# Altium footprint library Diodes.PcbLib: 14 footprints
Each footprint in its own frame and in the unit in brackets; x right, y up, seen from the top. Pads: shape width x height; smd on the part's side, far side on the other; paste and mask are expansions set on the pad; w line width, h text height; cw(c..) or ccw(c..) is an arc to the next point about the centre after c.
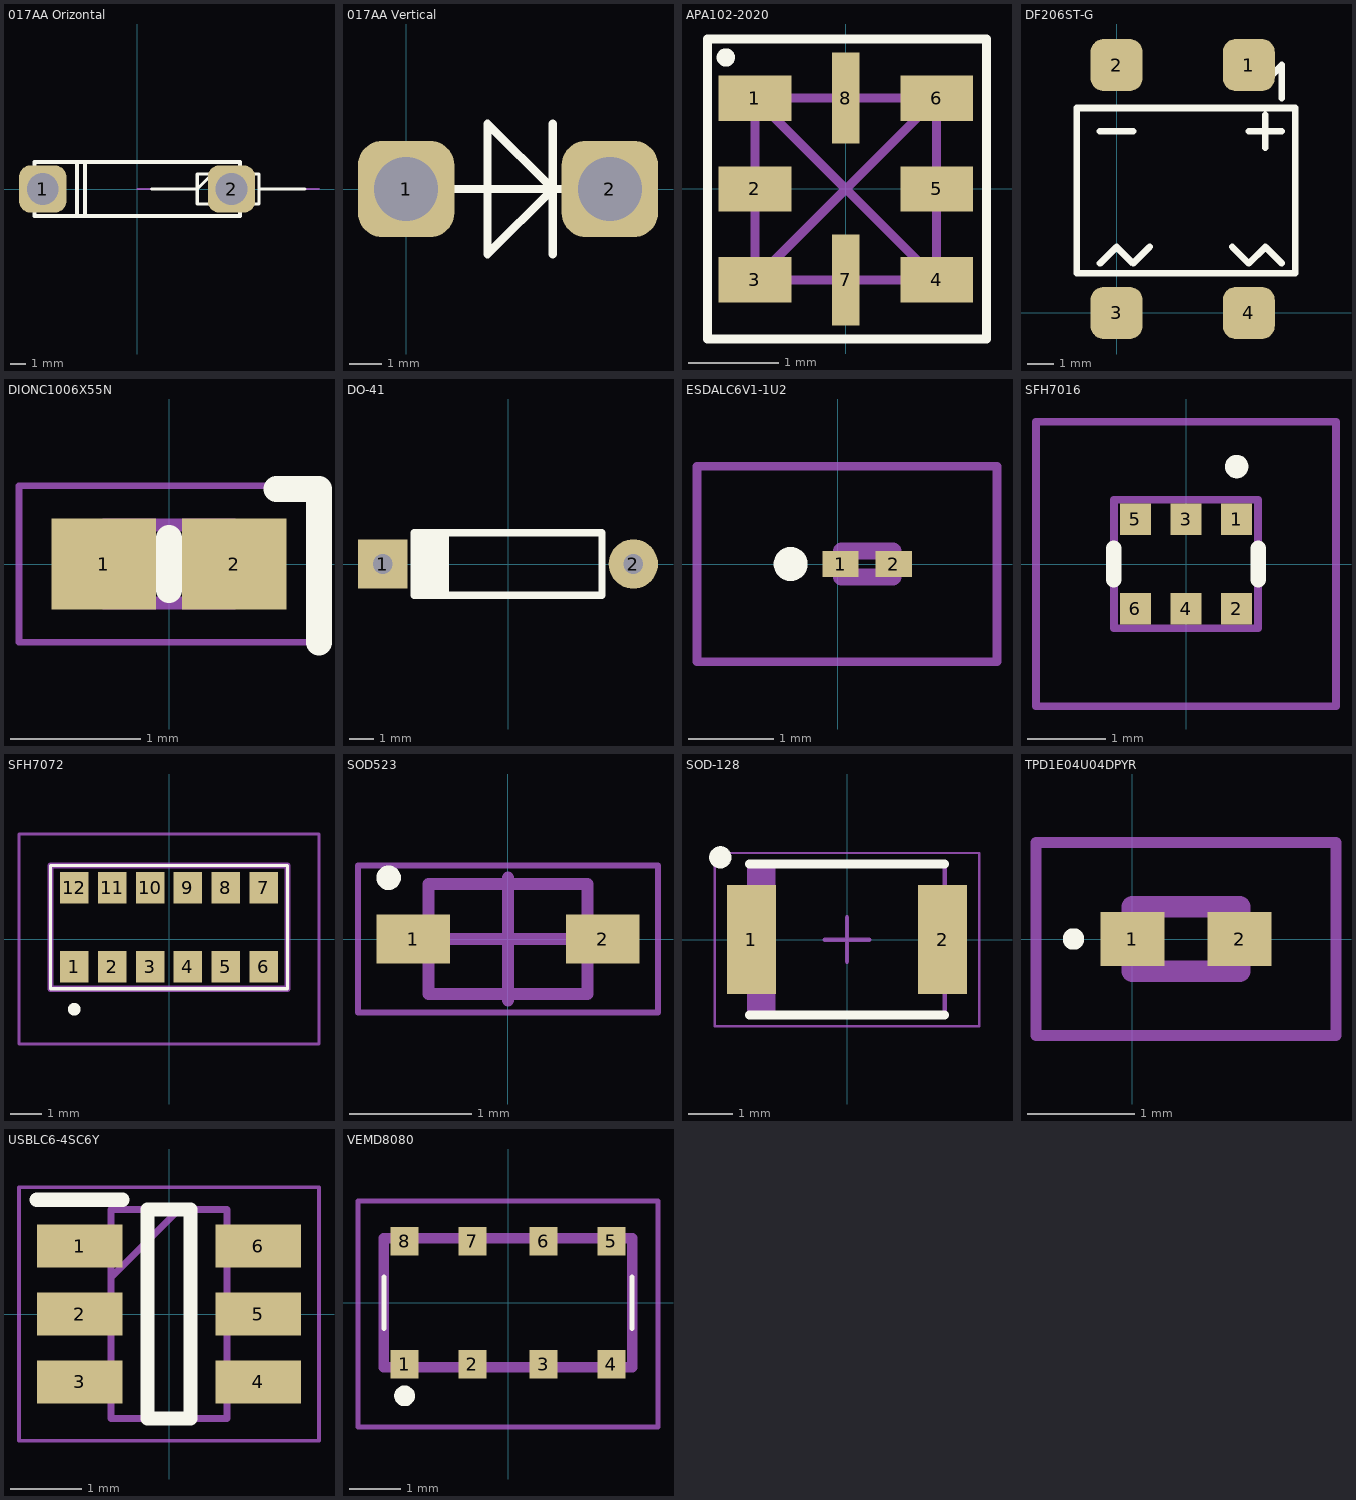
[diagram p0: the footprints below, top view; thin cyan lines are the x and y axes]

## 017AA Orizontal [mm] "Diode Case 017AA pitch 12 mm"
pads (2):
  rrect50% 3x3 hole 2: 1(-5.969,0) 2(5.969,0)
Top Overlay:
  lines w0.2: 0.9,0 3.8,0 4.75,0.95 ; 7.7,0 10.6,0 ; 3.8,-0.95 7.7,-0.95 7.7,0.95 3.8,0.95 3.8,-0.95
  lines w0.254: -3.81,-1.7 -3.81,1.7 ; -3.302,-1.7 -3.302,1.7 ; -6.5,-1.7 6.5,-1.7 6.5,1.7 -6.5,1.7 -6.5,-1.7
Mechanical 13:
  lines w0.1: 0,0 3.8,0 4.75,0.95 ; 3.8,0.95 3.8,-0.95 7.7,-0.95 ; 7.7,0 11.5,0
3D body "ZPD5.6.stp": height 2, standoff -2, extent -0.25,-0.993 11.75,0.993
3D body "User Library-Diode Case 017AA.STEP": height 3.4, standoff -3, extent -6.5,-1.7 6.5,1.7

## 017AA Vertical [mm] "Diode Case 017AA pitch 12 mm"
pads (2):
  rrect50% 3x3 hole 2: 1(0,0) 2(6.35,0)
Top Overlay:
  lines w0.254: 1.016,0 0,0 6.35,0 ; 4.572,-2.032 4.572,0 ; 4.572,2.032 4.572,0 ; 4.572,0 2.54,2.032 2.54,-2.032 4.572,0
3D body "User Library-Diode Case 017AA.STEP": height 11.5, standoff -1.5, extent -1.876,-1.7 4.524,1.7

## APA102-2020 [mm]
pads (8):
  rect 0.8x0.5 smd: 1(-1,1) 2(-1,0) 3(-1,-1) 4(1,-1) 5(1,0) 6(1,1)
  rect 0.3x1 smd: 7(0,-1) 8(0,1)
Top Overlay:
  circle w0.1: c-1.321,1.448 r0.051
  lines w0.1: -1.524,-1.651 -1.524,1.651 1.549,1.651 1.549,-1.651 -1.524,-1.651
Mechanical 15:
  lines w0.1: -1,-1 1,-1 ; -1,-1 -1,1 ; -1,-1 1,1 ; -1,1 1,1 ; -1,1 1,-1 ; 1,-1 1,1
3D body: height 0.3, standoff -0.1, extent 0.394,0.356 0.775,0.762
3D body: height 0.3, standoff -0.1, extent -0.19,0.356 0.191,0.762
3D body: height 0.3, standoff -0.1, extent -0.762,0.356 -0.381,0.762
3D body: height 0.4, standoff 0, extent -0.635,-0.889 0.66,0
3D body: height 0.25, standoff 0, extent -1,-1 1,1
3D body: height 0.9, standoff 0, extent -1,-1 1,1

## DF206ST-G [mm] "SMD Glass Passivated Bridge Rectifiers, 600V 2A, Package DFS"
pads (4):
  rrect50% 2x2 smd: 1(5.08,9.525) 2(0,9.525) 3(0,0) 4(5.08,0)
Top Overlay:
  lines w0.254: -0.635,1.905 0,2.54 0.635,1.905 1.27,2.54 ; -0.635,6.985 0.635,6.985 ; 4.445,2.54 5.08,1.905 5.715,2.54 6.35,1.905 ; 5.08,6.985 6.35,6.985 ; 5.715,6.35 5.715,7.62 ; 5.715,8.89 6.35,9.525 6.35,8.255 ; -1.524,1.524 -1.524,7.874 6.858,7.874 6.858,1.524 -1.524,1.524
3D body "User Library-DFS.STEP": height 2.61, standoff 0.02, extent -1.5,-0.5 6.7,9.8

## DIONC1006X55N [mm]
pads (2):
  rect 0.8x0.7 smd: 1(-0.5,0) 2(0.5,0)
Top Overlay:
  lines w0.2: 0,-0.2 0,0.2 ; 0.825,0.575 1.15,0.575 1.15,-0.6
Mechanical 13:
  lines w0.1: -0.5,-0.3 0.5,-0.3 0.5,0.3 -0.5,0.3 -0.5,-0.3
Mechanical 15:
  lines w0.05: -1.15,-0.6 1.15,-0.6 1.15,0.6 -1.15,0.6 -1.15,-0.6
3D body "CZRQR52C2-HF.stp": height 0.55, standoff 0, extent -0.5,-0.3 0.5,0.3

## DO-41 [mm]
pads (2):
  rect 2x2 hole 0.8: 1(-5.08,0)
  round 2 hole 0.8: 2(5.08,0)
Top Overlay:
  rectangle: -3.81,-1.27 -2.54,1.27
  lines w0.3: -2.54,-1.27 -2.54,1.27 -3.81,1.27 ; -3.81,1.27 -3.81,-1.27 3.81,-1.27 3.81,1.27 -3.81,1.27
3D body "DO-41G-40.step": height 2.52, standoff -2, extent -5.521,-1.175 5.419,1.227

## ESDALC6V1-1U2 [mm]
pads (2):
  rect 0.425x0.3 smd: 1(0.031,0) 2(0.656,0)
Top Overlay:
  lines w0.2: -0.556,-0.1 cw(c-0.556,0) -0.556,0.1 cw(c-0.556,0) -0.556,-0.1
Mechanical 13:
  lines w0.2: 0.044,-0.15 0.644,-0.15 0.644,0.15 0.044,0.15 0.044,-0.15
Mechanical 15:
  lines w0.1: -1.656,-1.15 1.869,-1.15 1.869,1.15 -1.656,1.15 -1.656,-1.15
3D body "ESDALC6V1-1U2.stp": height 0.34, standoff 0, extent 0.015,-0.175 0.665,0.175

## SFH7016 [mm]
pads (6):
  rect 0.4x0.4 smd: 1(0.65,0.575) 2(0.65,-0.575) 3(0,0.575) 4(0,-0.575) 5(-0.65,0.575) 6(-0.65,-0.575)
Top Overlay:
  lines w0.2: 0.65,1.2 ccw(c0.65,1.25) 0.65,1.3 ; 0.65,1.2 cw(c0.65,1.25) 0.65,1.3 ; 0.65,1.2 ccw(c0.65,1.25) 0.65,1.3 ; -0.925,-0.2 -0.925,0.2 -0.925,-0.2 ; 0.925,-0.2 0.925,0.2 0.925,-0.2
Mechanical 13:
  lines w0.1: -0.925,-0.825 -0.925,0.825 0.925,0.825 0.925,-0.825 -0.925,-0.825
Mechanical 15:
  lines w0.1: -1.925,-1.825 -1.925,1.825 1.925,1.825 1.925,-1.825 -1.925,-1.825
3D body "SFH_7016.stp": height 0.8, standoff 0, extent -0.925,-0.825 0.925,0.825

## SFH7072 [mm]
pads (12):
  rect 0.9x1 smd: 1(-3,-0.875) 2(-1.8,-0.875) 3(-0.6,-0.875) 4(0.6,-0.875) 5(1.8,-0.875) 6(3,-0.875) 7(3,1.625) 8(1.8,1.625) 9(0.6,1.625) 10(-0.6,1.625) 11(-1.8,1.625) 12(-3,1.625)
Top Overlay:
  lines w0.1: -3.75,-1.575 3.75,-1.575 3.75,2.325 -3.75,2.325 -3.75,-1.575
  lines w0.2: -3.1,-2.225 cw(c-3,-2.225) -2.9,-2.225 cw(c-3,-2.225) -3.1,-2.225
Mechanical 13:
  lines w0.2: -3.75,-1.575 3.75,-1.575 3.75,2.325 -3.75,2.325 -3.75,-1.575
Mechanical 15:
  lines w0.1: -4.75,-3.325 4.75,-3.325 4.75,3.325 -4.75,3.325 -4.75,-3.325
3D body "SFH_7072.stp": height 1.1, standoff 0, extent -3.75,-1.575 3.75,2.325

## SOD523 [mm] "SODFL, 2-Leads, Body 0,80x1,60mm, IPC Medium Density"
height 0.7
pads (2):
  rect 0.6x0.4 smd: 1(-0.775,0) 2(0.775,0)
Top Overlay:
  circle w0.1: c-0.975,0.5 r0.05
Mechanical 13:
  lines w0.1: -0.65,-0.45 -0.65,0.45 0.65,0.45 0.65,-0.45 -0.65,-0.45
Mechanical 15:
  lines w0.05: -1.225,-0.6 -1.225,0.6 1.225,0.6 1.225,-0.6 -1.225,-0.6
  lines w0.1: -0.5,0 0.5,0 ; 0,-0.5 0,0.5
3D body "SODFL160X70-2N.step": height 0.7, standoff 0, extent -0.8,-0.45 0.8,0.45

## SOD-128 [mm] "Molded Diode, 2-Leads, Body 4,35x3,35mm, IPC Medium Density"
height 1.1
pads (2):
  rect 1.1x2.45 smd: 1(-2.15,0) 2(2.15,0)
Top Overlay:
  circle w0.25: c-2.85,1.85 r0.125
  lines w0.2: -2.2,-1.7 2.2,-1.7 ; -2.2,1.7 2.2,1.7
Mechanical 13:
  rectangle: -2.2,-1.7 -1.608,1.7
  lines w0.1: -2.2,-1.7 2.2,-1.7 2.2,1.7 -2.2,1.7 -2.2,-1.7
Mechanical 15:
  lines w0.05: -2.975,-1.95 2.975,-1.95 2.975,1.95 -2.975,1.95 -2.975,-1.95
  lines w0.1: -0.5,0 0.5,0 ; 0,-0.5 0,0.5
3D body: height 1.5, standoff -1.5, extent 4.445,1.27 4.445,1.27
3D body "User Library-SOD-128Flat.STEP": height 1.02, standoff 0, extent -2.4,-1.25 2.4,1.25

## TPD1E04U04DPYR [mm]
pads (2):
  rect 0.6x0.5 smd: 1(0,0) 2(1,0)
Top Overlay:
  lines w0.1: -0.6,0 cw(c-0.55,0) -0.5,0 cw(c-0.55,0) -0.6,0
Mechanical 13:
  lines w0.2: 0,-0.3 1,-0.3 1,0.3 0,0.3 0,-0.3
Mechanical 15:
  lines w0.1: -0.9,-0.9 1.9,-0.9 1.9,0.9 -0.9,0.9 -0.9,-0.9
3D body "TPD1E04U04DPYR.stp": height 0.6, standoff 0, extent 0,-0.3 1,0.3

## USBLC6-4SC6Y [mm]
pads (6):
  rect 1.2x0.6 smd: 1(-1.25,0.95) 2(-1.25,0) 3(-1.25,-0.95) 4(1.25,-0.95) 5(1.25,0) 6(1.25,0.95)
Top Overlay:
  lines w0.2: -1.85,1.6 -0.65,1.6 ; -0.3,-1.462 -0.3,1.462 0.3,1.462 0.3,-1.462 -0.3,-1.462
Mechanical 13:
  lines w0.1: -0.812,0.512 0.138,1.462 ; -0.812,-1.462 -0.812,1.462 0.812,1.462 0.812,-1.462 -0.812,-1.462
Mechanical 15:
  lines w0.05: -2.1,-1.775 -2.1,1.775 2.1,1.775 2.1,-1.775 -2.1,-1.775
3D body "USBLC6-4SC6Y.stp": height 1.45, standoff 0, extent -1.4,-1.462 1.4,1.462

## VEMD8080 [mm]
pads (8):
  rect 0.54x0.55 smd: 1(-2,-1.19) 2(-0.69,-1.19) 3(0.69,-1.19) 4(2,-1.19) 5(2,1.19) 6(0.69,1.19) 7(-0.69,1.19) 8(-2,1.19)
Top Overlay:
  lines w0.1: -2.4,-0.5 -2.4,0.5 ; 2.4,-0.5 2.4,0.5
  lines w0.2: -2.1,-1.8 ccw(c-2,-1.8) -1.9,-1.8 ccw(c-2,-1.8) -2.1,-1.8
Mechanical 13:
  lines w0.2: -2.4,-1.25 -2.4,1.25 2.4,1.25 2.4,-1.25 -2.4,-1.25
Mechanical 15:
  lines w0.1: -2.9,-2.4 -2.9,1.965 2.9,1.965 2.9,-2.4 -2.9,-2.4
3D body "VEMD8080.stp": height 0.48, standoff 0, extent -2.4,-1.23 2.4,1.27